# Altium footprint library SOP64P601X175-28N.PcbLib: 1 footprints
Each footprint in its own frame and in the unit in brackets; x right, y up, seen from the top. Pads: shape width x height; smd on the part's side, far side on the other; paste and mask are expansions set on the pad; w line width, h text height; cw(c..) or ccw(c..) is an arc to the next point about the centre after c.
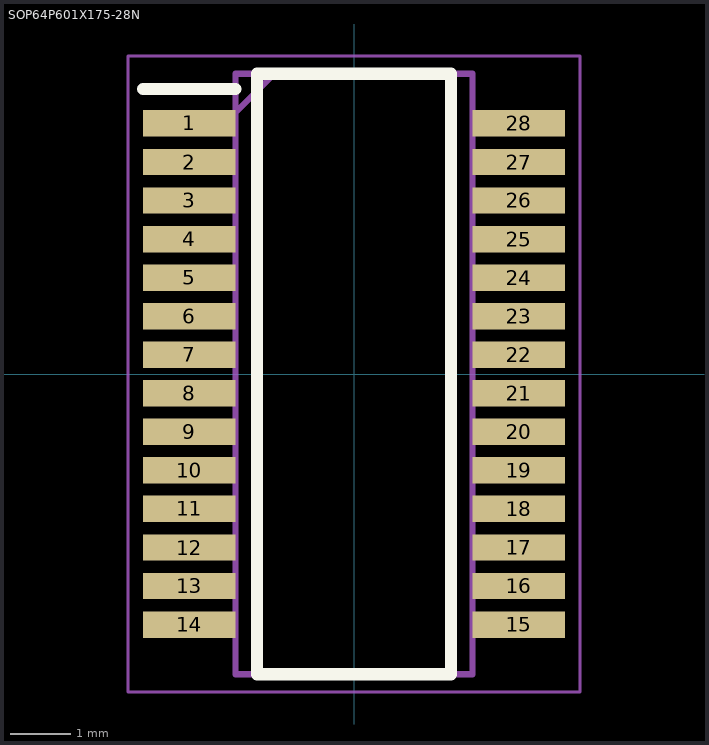
[diagram p0: the footprint, top view; thin cyan lines are the x and y axes]

## SOP64P601X175-28N [mm]
pads (28):
  rect 1.526x0.435 smd: 1(-2.712,4.128) 2(-2.712,3.492) 3(-2.712,2.858) 4(-2.712,2.222) 5(-2.712,1.588) 6(-2.712,0.952) 7(-2.712,0.318) 8(-2.712,-0.318) 9(-2.712,-0.952) 10(-2.712,-1.588) 11(-2.712,-2.222) 12(-2.712,-2.858) 13(-2.712,-3.492) 14(-2.712,-4.128) 15(2.712,-4.128) 16(2.712,-3.492) 17(2.712,-2.858) 18(2.712,-2.222) 19(2.712,-1.588) 20(2.712,-0.952) 21(2.712,-0.318) 22(2.712,0.318) 23(2.712,0.952) 24(2.712,1.588) 25(2.712,2.222) 26(2.712,2.858) 27(2.712,3.492) 28(2.712,4.128)
Top Overlay:
  lines w0.2: -3.475,4.695 -1.95,4.695 ; -1.6,-4.946 1.6,-4.946 1.6,4.946 -1.6,4.946 -1.6,-4.946
Mechanical 15:
  lines w0.1: -1.95,4.312 -1.314,4.946 ; -1.95,-4.946 1.95,-4.946 1.95,4.946 -1.95,4.946 -1.95,-4.946
Mechanical 20:
  lines w0.05: -3.725,-5.241 3.725,-5.241 3.725,5.241 -3.725,5.241 -3.725,-5.241